# Altium footprint library ABM3-12.000MHZ-D2Y-T.PcbLib: 2 footprints
Each footprint in its own frame and in the unit in brackets; x right, y up, seen from the top. Pads: shape width x height; smd on the part's side, far side on the other; paste and mask are expansions set on the pad; w line width, h text height; cw(c..) or ccw(c..) is an arc to the next point about the centre after c.
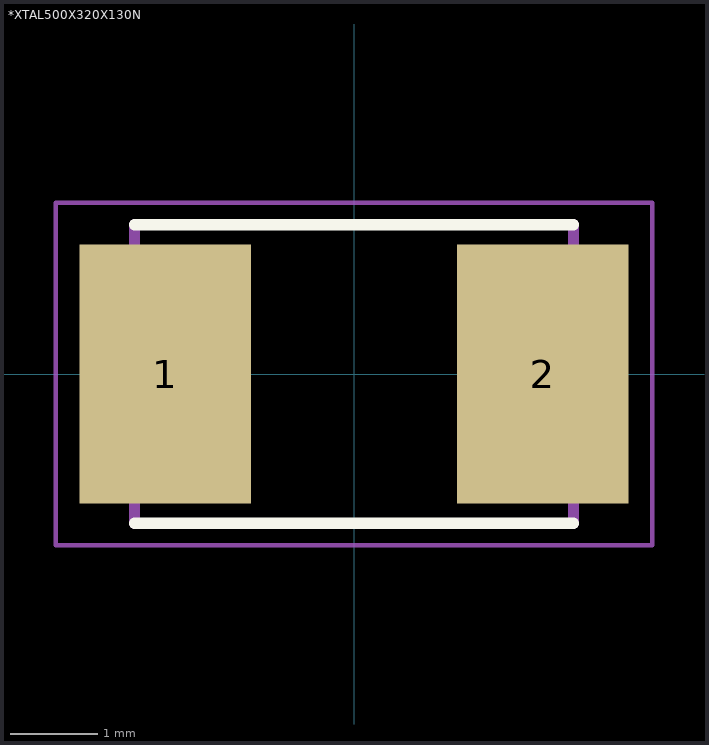
[diagram p0: the footprints below, top view; thin cyan lines are the x and y axes]

## *XTAL500X320X130N [mm]
pads (2):
  rect 1.95x2.95 smd: 1(-2.15,0) 2(2.15,0)
Top Overlay:
  lines w0.127: -2.5,-1.7 2.5,-1.7 ; -2.5,1.7 2.5,1.7
Mechanical 4:
  lines w0.127: -2.5,-1.7 -2.5,1.7 -2.5,-1.7 ; 2.5,-1.7 2.5,1.7 2.5,-1.7
Mechanical 16:
  lines w0.05: -3.4,-1.95 -3.4,1.95 3.4,1.95 3.4,-1.95 -3.4,-1.95

## PCBComponent_1 [mm]